# Altium schematic symbol library PMIC - Voltage Regulators - Linear.SchLib: 1 symbol
Pins are listed as number, name and electrical type; pins without a type are passive.

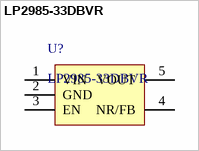
[diagram p0: symbol LP2985-33DBVR]

## LP2985-33DBVR
designator U?
IC REG LDO 3.3V 0.15A SOT23-5; Manufacturer: Texas Instruments; Regulator Topology: Positive Fixed; Current - Output: 150mA; Voltage - Dropout (Typical): 0.28V @ 150mA; Number of Regulators: 1; Voltage - Input: Up to 16V; Input Voltage MAX: 16 V; Number of Outputs: 1 Output; Output Current: 150 mA; Output Type: Fixed; Dropout Voltage - Max: 3 mV at 0 A; Voltage Regulation Accuracy: 1.5 %; Dropout Voltage: 0.001 V at 0 A; Ib - Input Bias Current: 850 uA; Input Voltage MIN: + 2.2 V; Line Regulation: 0.014 % / V; Polarity: Positive; Supplier 1: Digi-Key; Supplier Part Number 1: 296-18476-1-ND; Manufacturer Part Number: LP2985-33DBVR; RoHS: RoHS Compliant; Category: Integrated Circuits (ICs); Stock 1: 68988; Pricing 1: 1=0.58, 10=0.51, 100=0.39, 500=0.309, 1000=0.2475 (USD); Packaging: Cut Tape (CT); Part Status: Active; Voltage - Output: 3.3V; Current - Limit (Min): -; Operating Temperature: -40°C ~ 125°C; Mounting Type: Surface Mount; Package / Case: SC-74A, SOT-753; Supplier Device Package: SOT-23-5; ComponentLink1URL: http://www.ti.com/lit/ds/symlink/lp2985-18.pdf; ComponentLink1Description: http://www.ti.com/lit/ds/symlink/lp2985-18.pdf; Supplier 2: Mouser; Supplier Part Number 2: 595-LP2985-33DBVR; Stock 2: 19872; Pricing 2: 1=0.550, 10=0.465, 100=0.300, 1000=0.240, 2000=0.203, 3000=0.202, 9000=0.194, 24000=0.187, 48000=0.180 (USD); Height: 1.15 mm; Length: 2.9 mm; Output Voltage: 3.3 V; Series: LP2985-33; Width: 1.6 mm; Brand: Texas Instruments; Mounting Style: SMD/SMT; Maximum Operating Temperature: + 125 C; Minimum Operating Temperature: - 40 C; Standard Pack Qty: 3000; RoHS - Mouser: Y; Minimum Order Quantity: 1; Reeling: True
footprint SOT-23-5 (SOT23, 5-Leads, Body 3.0x3.0mm (max), Pitch 0.95mm, IPC Medium Density)
pins: 1 VIN, 2 GND, 3 EN, 4 NR/FB, 5 VOUT